# Altium footprint library PS_PcbLib.PcbLib: 25 footprints (part 2 of 2)
Each footprint in its own frame and in the unit in brackets; x right, y up, seen from the top. Pads: shape width x height; smd on the part's side, far side on the other; paste and mask are expansions set on the pad; w line width, h text height; cw(c..) or ccw(c..) is an arc to the next point about the centre after c.
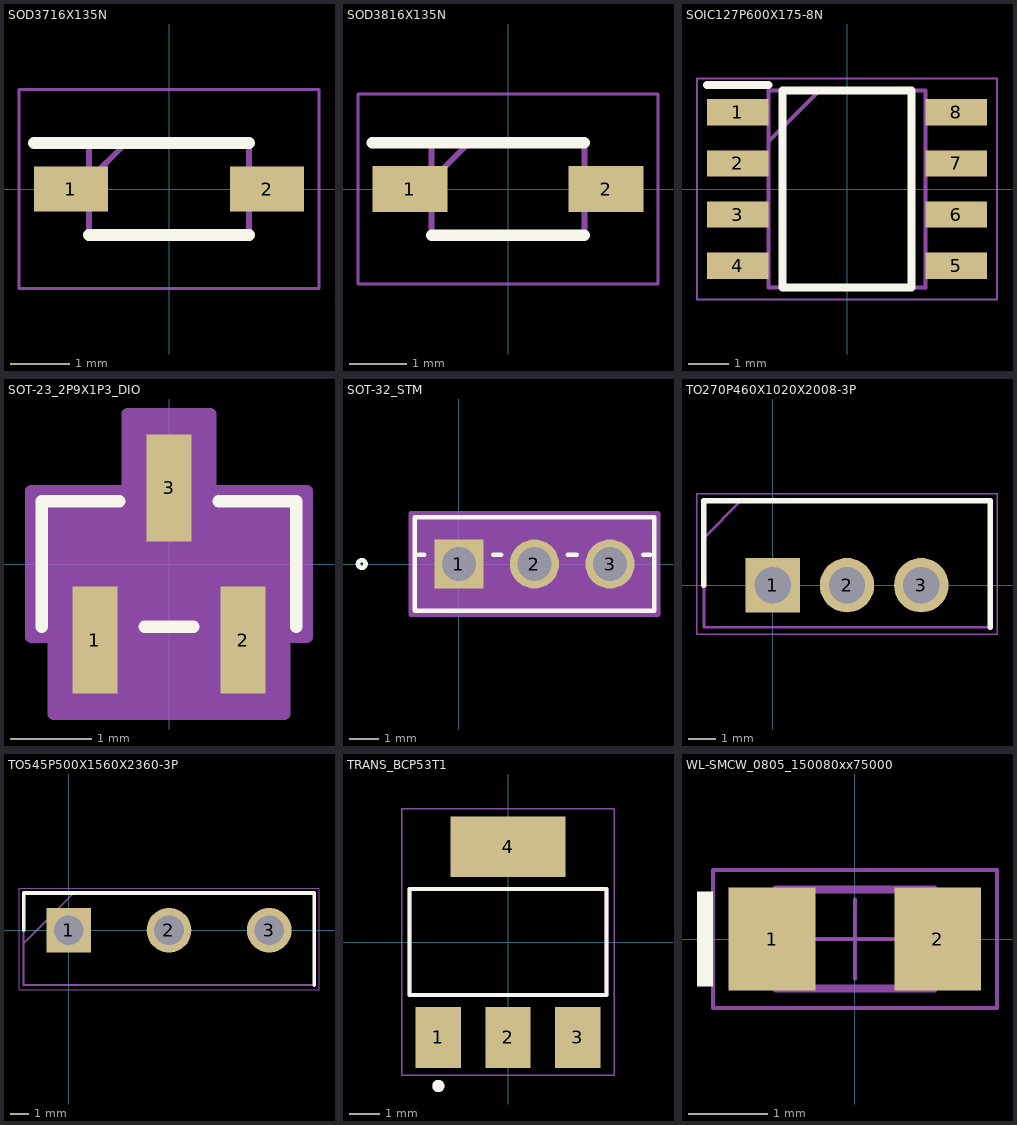
[diagram p1: the footprints below, top view; thin cyan lines are the x and y axes]

## SOD3716X135N [mm]
pads (2):
  rect 1.25x0.75 smd: 1(-1.65,0) 2(1.65,0)
Top Overlay:
  lines w0.2: -2.275,0.775 1.35,0.775 ; -1.35,-0.775 1.35,-0.775
Mechanical 13:
  lines w0.1: -1.35,0.15 -0.725,0.775 ; -1.35,-0.775 -1.35,0.775 1.35,0.775 1.35,-0.775 -1.35,-0.775
Mechanical 15:
  lines w0.05: -2.525,-1.675 -2.525,1.675 2.525,1.675 2.525,-1.675 -2.525,-1.675
3D body "BZT52C5V1-E3-08.stp": height 1.35, standoff 0, extent -1.85,-0.775 1.85,0.775

## SOD3816X135N [mm]
pads (2):
  rect 1.3x0.8 smd: 1(-1.7,0) 2(1.7,0)
Top Overlay:
  lines w0.2: -2.35,0.8 1.325,0.8 ; -1.325,-0.8 1.325,-0.8
Mechanical 13:
  lines w0.1: -1.325,0.15 -0.675,0.8 ; -1.325,-0.8 -1.325,0.8 1.325,0.8 1.325,-0.8 -1.325,-0.8
Mechanical 15:
  lines w0.05: -2.6,-1.65 -2.6,1.65 2.6,1.65 2.6,-1.65 -2.6,-1.65
3D body "1N4148W_R1_00001.stp": height 1.35, standoff 0, extent -1.875,-0.8 1.875,0.8

## SOIC127P600X175-8N [mm]
pads (8):
  rect 1.525x0.65 smd: 1(-2.712,1.905) 2(-2.712,0.635) 3(-2.712,-0.635) 4(-2.712,-1.905) 5(2.712,-1.905) 6(2.712,-0.635) 7(2.712,0.635) 8(2.712,1.905)
Top Overlay:
  lines w0.2: -3.475,2.58 -1.95,2.58 ; -1.6,-2.45 1.6,-2.45 1.6,2.45 -1.6,2.45 -1.6,-2.45
Mechanical 13:
  lines w0.1: -1.95,1.18 -0.68,2.45 ; -1.95,-2.45 1.95,-2.45 1.95,2.45 -1.95,2.45 -1.95,-2.45
Mechanical 15:
  lines w0.05: -3.725,-2.75 3.725,-2.75 3.725,2.75 -3.725,2.75 -3.725,-2.75
3D body "NE555DR.stp": height 1.75, standoff 0, extent -3,-2.45 3,2.45

## SOT-23_2P9X1P3_DIO [mil]
pads (3):
  rect 22x52 smd paste+0 mask+0: 1(-36.02,-37) 2(36.02,-37) 3(0,37)
Top Overlay:
  lines w6: -62,-30.5 -62,30.5 -24.1,30.5 ; -11.92,-30.5 11.92,-30.5 ; 24.1,30.5 62,30.5 62,-30.5
Mechanical 13:
  lines w1: -57,-25.5 -57,25.5 57,25.5 57,-25.5 -57,-25.5 ; -46.02,-49 -26.02,-49 -26.02,-25.5 -46.02,-25.5 -46.02,-49 ; -10,25.5 -10,49 10,49 10,25.5 -10,25.5 ; 26.02,-49 46.02,-49 46.02,-25.5 26.02,-25.5 26.02,-49
Mechanical 15:
  region: -67,-35.5 -67,35.5 -20,35.5 -20,73 20,73 20,35.5 67,35.5 67,-35.5 56.02,-35.5 56.02,-73 -56.02,-73 -56.02,-35.5
  lines w6: -67,-35.5 -56.02,-35.5 -56.02,-73 56.02,-73 56.02,-35.5 67,-35.5 67,35.5 20,35.5 20,73 -20,73 -20,35.5 -67,35.5 -67,-35.5
3D body "SOT-23_2P9X1P3_DIO.step": height 43.11, standoff 0, extent -57.01,-49.02 57.01,49.02

## SOT-32_STM [mil]
pads (3):
  rect 65x65 / inner round 60 / far side rect 65x65 hole 45 paste-99999 mask+0: 1(0,0)
  round 65 / inner round 60 / far side round 65 hole 45 paste-99999 mask+0: 2(100,0) 3(200,0)
Top Overlay:
  circle w6: c-128.5,0 r5
  lines w6: -53.5,12 -45.6,12 ; 45.6,12 56.01,12 ; 143.99,12 156.01,12 ; 243.99,12 253.5,12 ; -58.5,-62 258.5,-62 258.5,62 -58.5,62 -58.5,-62
Mechanical 13:
  circle w0: c-43.5,0 r5
  lines w1: -53.5,7 253.5,7 ; -53.5,-57 253.5,-57 253.5,57 -53.5,57 -53.5,-57
  text "TAB" at 81.25,19.5 h25
Mechanical 15:
  region: 263.5,67 -63.5,67 -63.5,-67 263.5,-67
  lines w6: -63.5,-67 -63.5,67 263.5,67 263.5,-67 -63.5,-67
3D body "SOT-32_STM.step": height 350, standoff -240, extent -53.5,-57.01 253.5,57.01

## TO270P460X1020X2008-3P [mm]
pads (3):
  rect 1.98x1.98 hole 1.32: 1(0,0)
  round 1.98 hole 1.32: 2(2.7,0) 3(5.4,0)
Top Overlay:
  lines w0.2: -2.5,0 -2.5,3.07 7.9,3.07 7.9,-1.53
Mechanical 13:
  lines w0.1: -2.5,1.72 -1.15,3.07 ; -2.5,-1.53 -2.5,3.07 7.9,3.07 7.9,-1.53 -2.5,-1.53
Mechanical 15:
  lines w0.05: -2.75,-1.78 -2.75,3.32 8.15,3.32 8.15,-1.78 -2.75,-1.78
3D body "L7824CV.stp": height 19.21, standoff -18.2, extent -2.4,-1.53 7.8,3.07

## TO545P500X1560X2360-3P [mm]
pads (3):
  rect 2.43x2.43 hole 1.62: 1(0,0)
  round 2.43 hole 1.62: 2(5.45,0) 3(10.9,0)
Top Overlay:
  lines w0.2: -2.45,0 -2.45,2.025 13.35,2.025 13.35,-2.975
Mechanical 13:
  lines w0.1: -2.45,-0.7 0.275,2.025 ; -2.45,-2.975 -2.45,2.025 13.35,2.025 13.35,-2.975 -2.45,-2.975
Mechanical 15:
  lines w0.05: -2.7,-3.225 -2.7,2.275 13.6,2.275 13.6,-3.225 -2.7,-3.225
3D body "2SD1047.stp": height 23.4, standoff -39.8, extent -2.35,-2.975 13.25,2.025

## TRANS_BCP53T1 [mm]
height 1.75
pads (4):
  rect 1.5x2 smd: 1(-2.3,-3.15) 2(0,-3.15) 3(2.3,-3.15)
  rect 3.8x2 smd: 4(0,3.15)
Top Overlay:
  circle w0.2: c-2.3,-4.75 r0.1
  lines w0.127: -3.25,-1.75 3.25,-1.75 3.25,1.75 -3.25,1.75 -3.25,-1.75
Mechanical 13:
  circle w0.2: c-2.3,-4.75 r0.1
  lines w0.127: -3.25,-1.75 3.25,-1.75 3.25,1.75 -3.25,1.75 -3.25,-1.75
Mechanical 15:
  lines w0.05: -3.5,-4.4 -3.5,4.4 3.5,4.4 3.5,-4.4 -3.5,-4.4
3D body "step_temp.STEP": height 1.75, standoff 0, extent -3.5,-3.25 3.5,3.25

## WL-SMCW_0805_150080xx75000 [mm] "SMD Mono-color Chip LED, body 2.0x1.25mm"
height 0.7
pads (2):
  rect 1.1x1.3 smd: 1(-1.05,0) 2(1.05,0)
Top Overlay:
  rectangle: -2,-0.6 -1.8,0.6
Top Courtyard:
  lines w0.05: -0.5,0 0.5,0 ; 0,-0.5 0,0.5 ; -1.8,-0.875 -1.8,0.875 1.8,0.875 1.8,-0.875 -1.8,-0.875
Top Designator:
  text ".Designator" at -2.499,-0.167 h0.5
Top Component Outline:
  rectangle: -1,-0.625 -0.7,0.625
  lines w0.1: -1,-0.625 -1,0.625 1,0.625 1,-0.625 -1,-0.625
3D body "150080xxS75000.stp": height 0.7, standoff 0, extent -1,-0.625 1,0.625